# Altium integrated library TAJB107K006TNJ.IntLib: 1 symbol
Pins are listed as number, name and electrical type; pins without a type are passive.

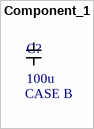
[diagram p0: symbol Component_1]

## Component_1
designator C?, comment 100u  CASE: CASE B
Buying URL:: https://uk.farnell.com/avx/tajb107k006tnj/cap-tant-aec-q200-100uf-6-3v-case/dp/2893386?st=100u%20CASE%20B
footprint CAPC3529X21N (Chip Capacitor, 2-Leads, Body 3.50x2.85mm, IPC Medium Density)
pins: 1, 2